# Altium schematic symbol library Schlib1.SchLib: 4 symbols
Pins are listed as number, name and electrical type; pins without a type are passive.

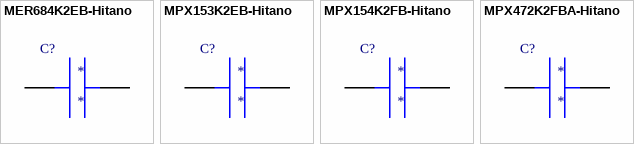
[diagram p0: symbols MER684K2EB-Hitano to MPX472K2FBA-Hitano]

## MER684K2EB-Hitano
designator *
pins: ?1, ?2
text: C?

## MPX153K2EB-Hitano
designator *
pins: ?1, ?2
text: C?

## MPX154K2FB-Hitano
designator *
pins: ?1, ?2
text: C?

## MPX472K2FBA-Hitano
designator *
pins: ?1, ?2
text: C?